# Altium schematic symbol library CONNECTORS.SchLib: 7 symbols
Pins are listed as number, name and electrical type; pins without a type are passive.

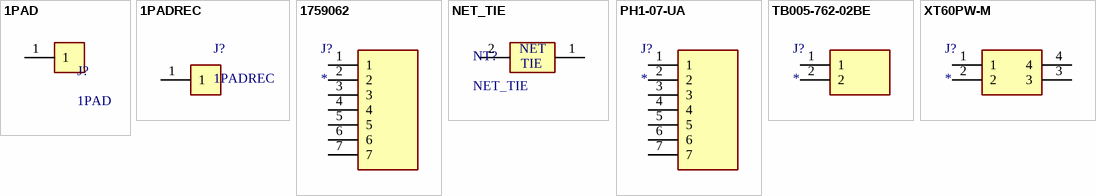
[diagram p0: symbols 1PAD to XT60PW-M]

## 1PAD
designator J?
1 Pad Connector
footprint 3PAD (3 Pad Connector)
pins: 1

## 1PADREC
designator J?
1 Pad Rectangular Connector
footprint 2PAD (2 Pad Connector)
pins: 1

## 1759062
designator J?
Connector; Manufacturer_Name: Phoenix Contact; Manufacturer_Part_Number: 1759062; Datasheet Link: http://www.phoenixcontact.com/de/produkte/1759062/pdf; Height: 8.72mm; Mouser Part Number: 651-1759062; Mouser Price/Stock: https://www.mouser.co.uk/ProductDetail/Phoenix-Contact/1759062?qs=cyzODkzcbwDJuRBXr3zqQw%3D%3D; Arrow Part Number: 1759062; Arrow Price/Stock: https://www.arrow.com/en/products/1759062/phoenix-contact
footprint SHDRRA7W103P0X508_1X7_3556X1200X872P
pins: 1, 2, 3, 4, 5, 6, 7

## NET_TIE
designator NT?
Net Tie Pad
footprint NET_TIE
pins: 1, 2
text: NET; TIE

## PH1-07-UA
designator J?
Connector; Manufacturer_Name: Adam Tech; Manufacturer_Part_Number: PH1-07-UA; Datasheet Link: https://app.adam-tech.com/products/download/data_sheet/201605/ph1-xx-ua-data-sheet.pdf; Height: 8.5mm; Mouser Part Number: 737-PH1-07-UA; Mouser Price/Stock: https://www.mouser.co.uk/ProductDetail/Adam-Tech/PH1-07-UA?qs=HoCaDK9Nz5eVL%252BujfwHkAw%3D%3D; Arrow Part Number: PH1-07-UA; Arrow Price/Stock: https://www.arrow.com/en/products/ph1-07-ua/adam-tech?utm_currency=USD&region=nac
footprint PH1-07-UA
pins: 1, 2, 3, 4, 5, 6, 7

## TB005-762-02BE
designator J?
Connector; Manufacturer_Name: Same Sky; Manufacturer_Part_Number: TB005-762-02BE; Datasheet Link: https://www.sameskydevices.com/product/resource/supplyframepdf/tb005-762.pdf; Height: 21.7mm; Mouser Part Number: 490-TB005-762-02BE; Mouser Price/Stock: https://www.mouser.co.uk/ProductDetail/Same-Sky/TB005-762-02BE?qs=vLWxofP3U2zXv1H2wuShow%3D%3D; Arrow Part Number: TB005-762-02BE; Arrow Price/Stock: https://www.arrow.com/en/products/tb005-762-02be/cui-devices?region=nac
footprint TB00576202BE
pins: 1, 2

## XT60PW-M
designator J?
Connector; Manufacturer_Name: Changzou Amass Elec; Manufacturer_Part_Number: XT60PW-M; Datasheet Link: https://www.tme.eu/Document/9b8d0c5eb7094295f3d3112c214d3ade/XT60PW%20SPEC.pdf; Height: 8.4mm
footprint XT60PWM
pins: 1, 2, 3, 4